# Altium schematic symbol library CP2102N-A02-GQFN24.SchLib: 1 symbol
Pins are listed as number, name and electrical type; pins without a type are passive.

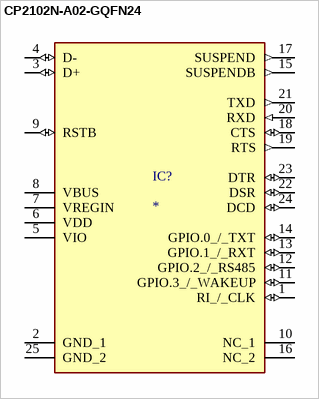
[diagram p0: symbol CP2102N-A02-GQFN24]

## CP2102N-A02-GQFN24
designator IC?
<b>USB Interface IC USB to UART bridge - QFN24</b><p> Source: <a href="https://componentsearchengine.com/Datasheets/1/CP2102N-A02-GQFN24.pdf"> Datasheet </a>; MF: {'manufacturer': u'Silicon Labs'}; Package: None; Value: *; Price: None; MP: CP2102N-A02-GQFN24; Availability: Unavailable
footprint QFN50P400X400X80-25N
pins: 1 RI_/_CLK (io), 2 GND_1 (power), 3 D+ (io), 4 D- (io), 5 VIO (power), 6 VDD (power), 7 VREGIN (power), 8 VBUS (power), 9 RSTB (io), 10 NC_1, 11 GPIO.3_/_WAKEUP (io), 12 GPIO.2_/_RS485 (io), 13 GPIO.1_/_RXT (io), 14 GPIO.0_/_TXT (io), 15 SUSPENDB (out), 16 NC_2, 17 SUSPEND (out), 18 CTS (io), 19 RTS (out), 20 RXD (in), 21 TXD (out), 22 DSR (io), 23 DTR (io), 24 DCD (io), 25 GND_2 (power)